# EAGLE library part SCA3100-D04 (library HyTechDevices)
Murata SCA3100-D04 3-axis accelerometer Datasheet <http://www.mouser.com/pdfdocs/SCA3300-D01Industrial3-axisaccelerometerDatasheet_A1.pdf>
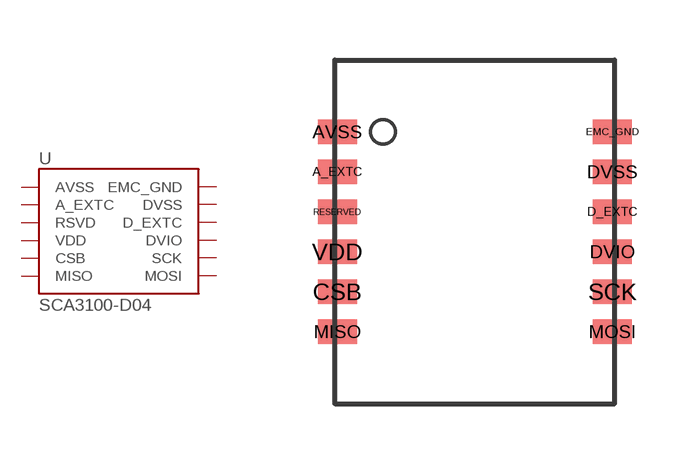
[diagram p75: symbol with the pads of SCA3100-D04; footprint SCA3100-D04]

Designator prefix -

## SCA3100-D04  [SCA3100-D04]
A_EXTC  A_EXTC
AVSS  AVSS
CSB  CSB
D_EXTC  D_EXTC
DVIO  DVIO
DVSS  DVSS
EMC_GND  EMC_GND
MISO  MISO
MOSI  MOSI
RESERVED  RSVD
SCK  SCK
VDD  VDD

## Footprint SCA3100-D04 (pad centres in mm)
smd 0.98 x 0.61: A_EXTC 0.06,-2.8; AVSS 0.06,-1.8; CSB 0.06,-5.8; D_EXTC 6.94,-3.8; DVIO 6.94,-4.8; DVSS 6.94,-2.8; EMC_GND 6.94,-1.8; MISO 0.06,-6.8; MOSI 6.94,-6.8; RESERVED 0.06,-3.8; SCK 6.94,-5.8; VDD 0.06,-4.8